# EAGLE library part CSD88584Q5DCT (library VESC_SHIT)
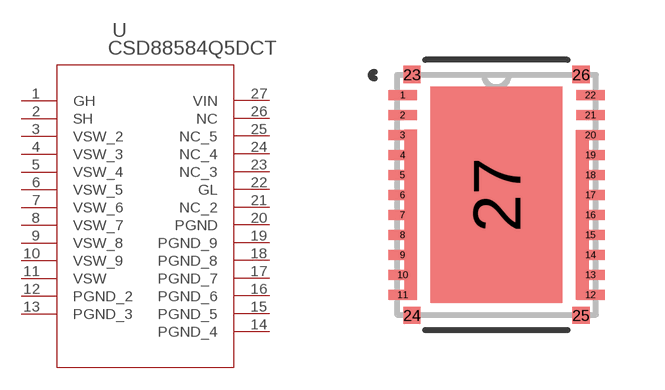
[diagram p5: symbol with the pads of DMM0022A; footprint DMM0022A]

Designator prefix U

## CSD88584Q5DCT (MANUFACTURER_PART_NUMBER: CSD88584Q5DCT; VENDOR: Texas Instruments)  [DMM0022A]
1  GH  pas
2  SH  pas
3  VSW_2  pas
4  VSW_3  pas
5  VSW_4  pas
6  VSW_5  pas
7  VSW_6  pas
8  VSW_7  pas
9  VSW_8  pas
10  VSW_9  pas
11  VSW  pas
12  PGND_2  pwr
13  PGND_3  pwr
14  PGND_4  pwr
15  PGND_5  pwr
16  PGND_6  pwr
17  PGND_7  pwr
18  PGND_8  pwr
19  PGND_9  pwr
20  PGND  pwr
21  NC_2  pas
22  GL  pas
23  NC_3  pas
24  NC_4  pas
25  NC_5  pas
26  NC  pas
27  VIN  pwr

## Footprint DMM0022A (pad centres in mm)
smd 0.711 x 0.254: 1 -2.35,2.5; 2 -2.35,2; 3 -2.35,1.5; 4 -2.35,1; 5 -2.35,0.5; 6 -2.35,0; 7 -2.35,-0.5; 8 -2.35,-1; 9 -2.35,-1.5; 10 -2.35,-2; 11 -2.35,-2.5; 12 2.35,-2.5; 13 2.35,-2; 14 2.35,-1.5; 15 2.35,-1; 16 2.35,-0.5; 17 2.35,0; 18 2.35,0.5; 19 2.35,1; 20 2.35,1.5; 21 2.35,2; 22 2.35,2.5
smd 0.432 x 0.432: 23 -2.115,3.013; 24 -2.115,-3.013; 25 2.115,-3.013; 26 2.115,3.013
smd 3.302 x 5.41: 27 0,0